# EAGLE library part PORT (library andereBauteile)
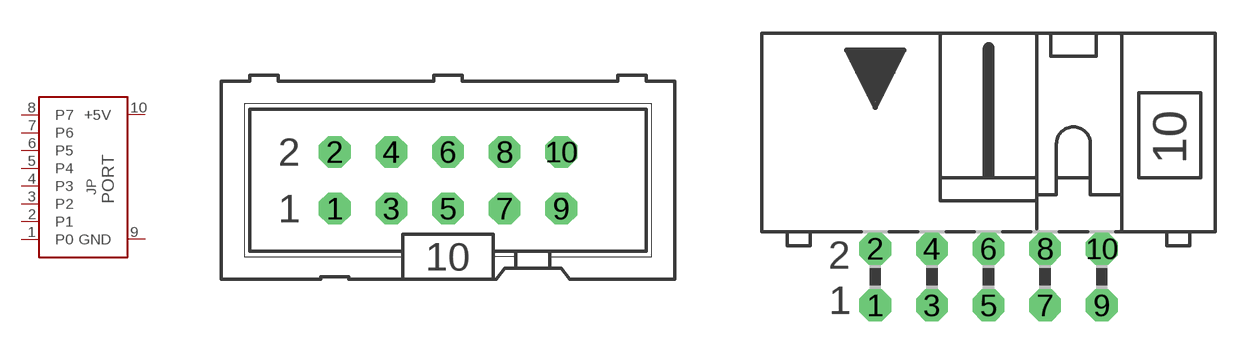
[diagram p22: symbol with the pads of ML10; footprints ML10, ML10L]

Designator prefix JP

## PORT  [ML10]
1  P0
2  P1
3  P2
4  P3
5  P4
6  P5
7  P6
8  P7
9  GND
10  +5V

## PORTL  [ML10L]
Pads as for ML10

## Footprint ML10 (pad centres in mm)
HARTING
drill 0.914 octagon: 1 -5.08,-1.27; 2 -5.08,1.27; 3 -2.54,-1.27; 4 -2.54,1.27; 5 0,-1.27; 6 0,1.27; 7 2.54,-1.27; 8 2.54,1.27; 9 5.08,-1.27; 10 5.08,1.27

## Footprint ML10L (pad centres in mm)
HARTING
drill 0.914 octagon: 1 -5.08,-1.27; 2 -5.08,1.27; 3 -2.54,-1.27; 4 -2.54,1.27; 5 0,-1.27; 6 0,1.27; 7 2.54,-1.27; 8 2.54,1.27; 9 5.08,-1.27; 10 5.08,1.27